# EAGLE library part AS5047D (library CougsInSpace)
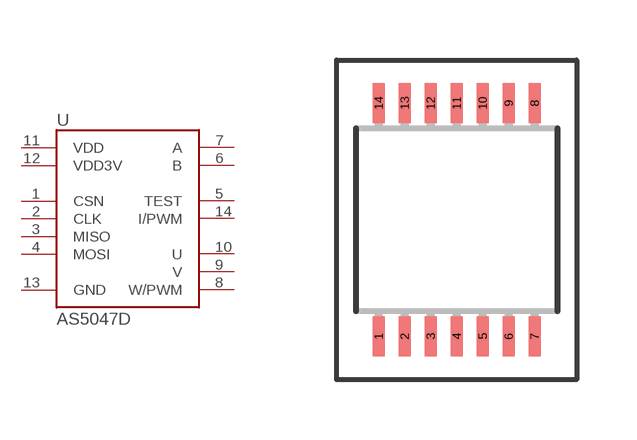
[diagram p20: symbol with the pads of TSSOP14; footprint TSSOP14]

Designator prefix U

## AS5047D  [TSSOP14]
1  CSN  in
2  CLK  in
3  MISO  out
4  MOSI  in
5  TEST  out
6  B  out
7  A  out
8  W/PWM  out
9  V  out
10  U  out
11  VDD  pwr
12  VDD3V  pwr
13  GND  pwr
14  I/PWM  out

## Footprint TSSOP14 (pad centres in mm)
Thin Shrink Small Outline Plastic 14
smd 0.305 x 0.991: 1 -1.95,-2.918; 2 -1.3,-2.918; 3 -0.65,-2.918; 4 0,-2.918; 5 0.65,-2.918; 6 1.3,-2.918; 7 1.95,-2.918; 8 1.95,2.918; 9 1.3,2.918; 10 0.65,2.918; 11 0,2.918; 12 -0.65,2.918; 13 -1.3,2.918; 14 -1.95,2.918